# EAGLE library part M25P10-A (library parts)
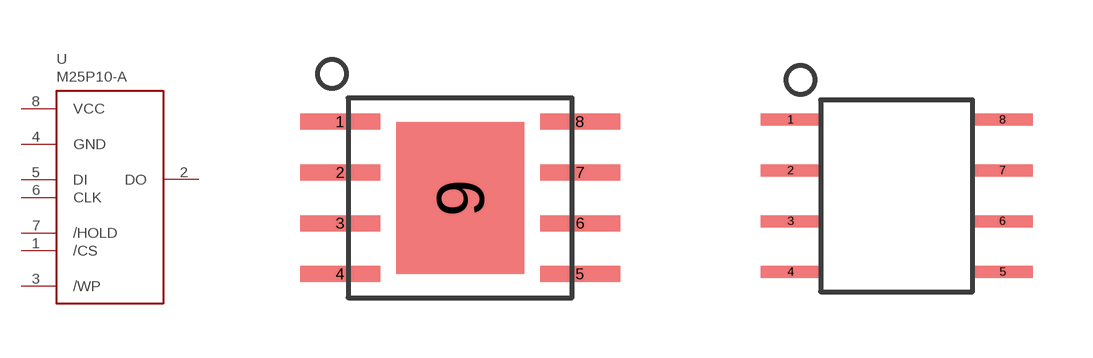
[diagram p11: symbol with the pads of VFQFPN8; footprints VFQFPN8, M25-SO8]

Designator prefix U

## M25P10-AVMP  [VFQFPN8]
1  /CS  in
2  DO  out
3  /WP  in
4  GND  pwr
5  DI  in
6  CLK  in
7  /HOLD  in
8  VCC  pwr

## M25P10-AVMN  [M25-SO8]
Pads as for VFQFPN8

## Footprint VFQFPN8 (pad centres in mm)
smd 2 x 0.4: 1 -3,1.905; 2 -3,0.635; 3 -3,-0.635; 4 -3,-1.905; 5 3,-1.905; 6 3,-0.635; 7 3,0.635; 8 3,1.905
smd 3.2 x 3.8: 9 0,0

## Footprint M25-SO8 (pad centres in mm)
smd 1.5 x 0.3: 1 -2.65,1.905; 2 -2.65,0.635; 3 -2.65,-0.635; 4 -2.65,-1.905; 5 2.65,-1.905; 6 2.65,-0.635; 7 2.65,0.635; 8 2.65,1.905